# Altium footprint library Texas Instruments Footprints.PcbLib: 429 footprints (part 23 of 32)
Each footprint in its own frame and in the unit in brackets; x right, y up, seen from the top. Pads: shape width x height; smd on the part's side, far side on the other; paste and mask are expansions set on the pad; w line width, h text height; cw(c..) or ccw(c..) is an arc to the next point about the centre after c.
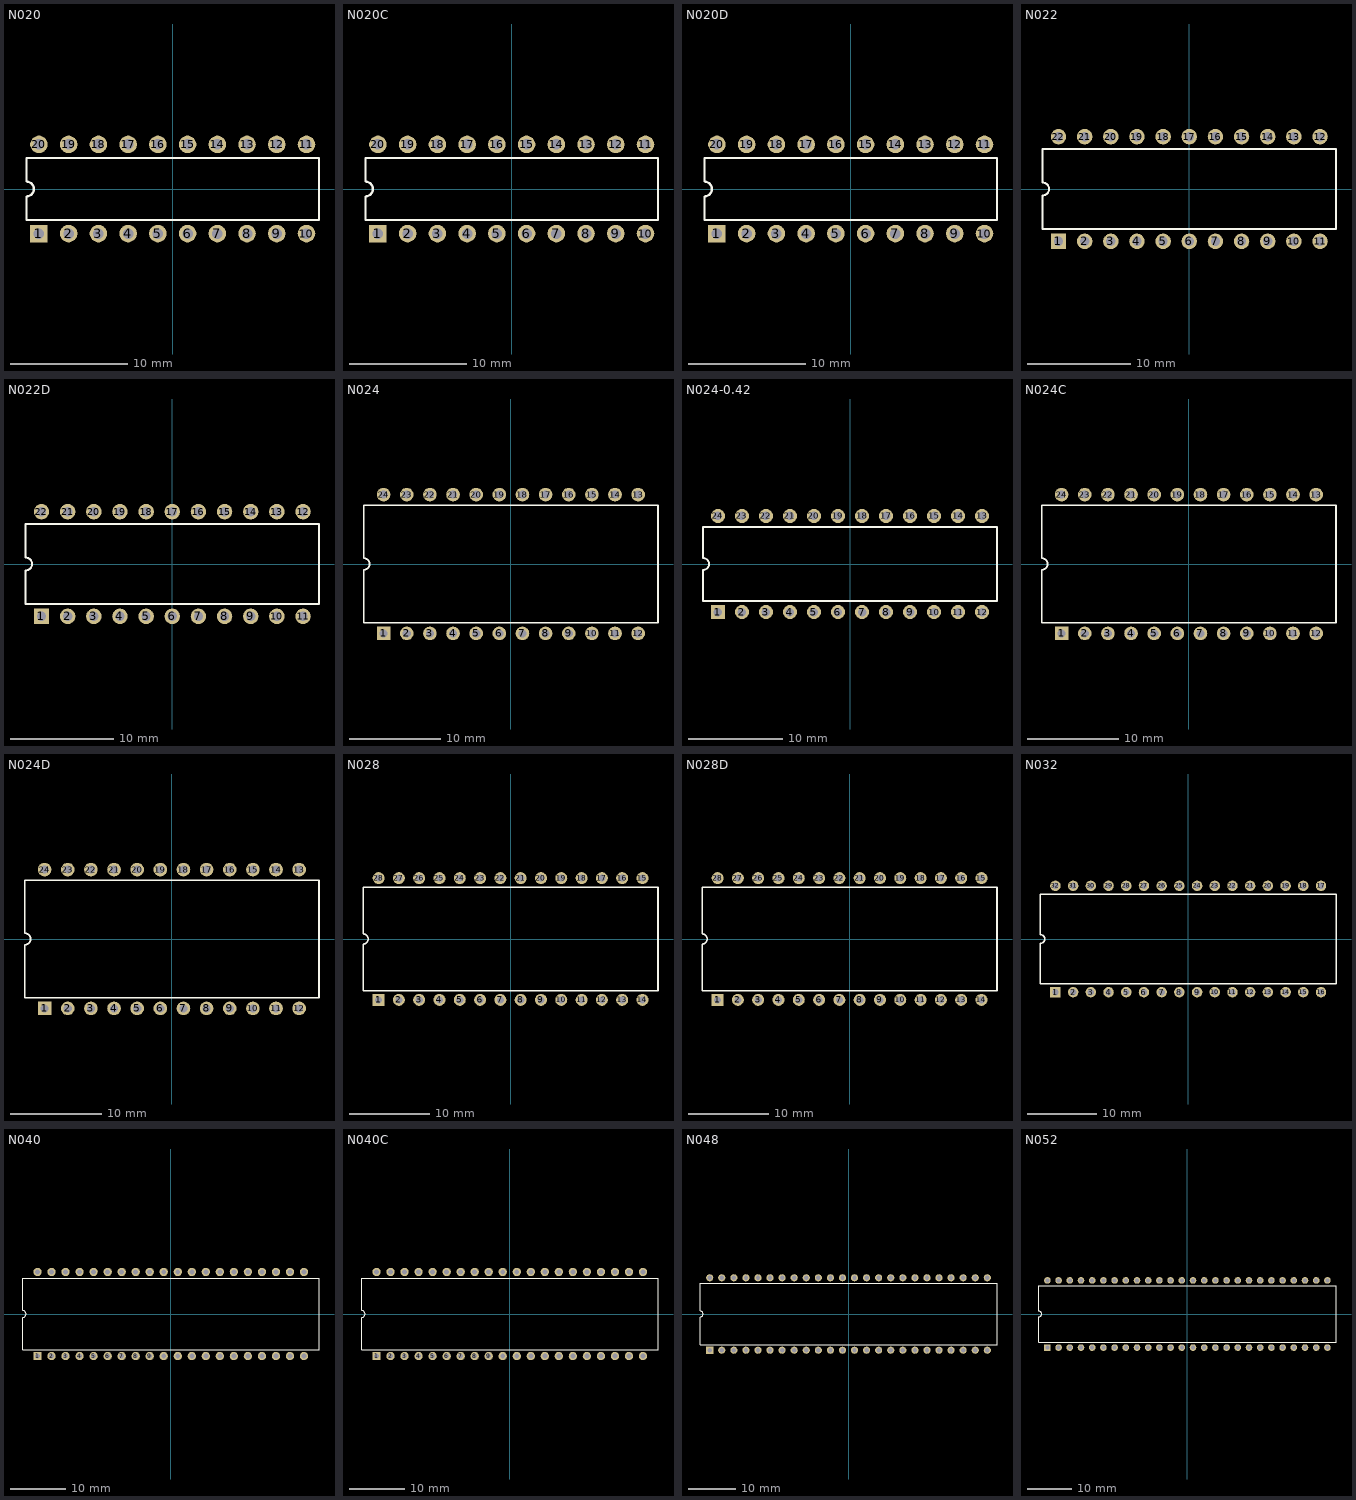
[diagram p22: the footprints below, top view; thin cyan lines are the x and y axes]

## N020 [mm] "DIP; 20 Leads; Row Spacing 7.62 mm; Pitch 2.54 mm"
height 5.08
pads (20):
  rect 1.5x1.5 hole 0.9: 1(-11.43,-3.81)
  round 1.5 hole 0.9: 2(-8.89,-3.81) 3(-6.35,-3.81) 4(-3.81,-3.81) 5(-1.27,-3.81) 6(1.27,-3.81) 7(3.81,-3.81) 8(6.35,-3.81) 9(8.89,-3.81) 10(11.43,-3.81) 11(11.43,3.81) 12(8.89,3.81) 13(6.35,3.81) 14(3.81,3.81) 15(1.27,3.81) 16(-1.27,3.81) 17(-3.81,3.81) 18(-6.35,3.81) 19(-8.89,3.81) 20(-11.43,3.81)
Top Overlay:
  lines w0.2: -12.5,-2.65 12.5,-2.65 12.5,2.65 -12.5,2.65 -12.5,0.635 cw(c-12.5,0) -12.5,-0.635 -12.5,-2.65

## N020C [mm] "DIP; 20 Leads; Row Spacing 7.62 mm; Pitch 2.54 mm"
height 5.08
pads (20):
  rect 1.5x1.5 hole 0.9: 1(-11.43,-3.81)
  round 1.5 hole 0.9: 2(-8.89,-3.81) 3(-6.35,-3.81) 4(-3.81,-3.81) 5(-1.27,-3.81) 6(1.27,-3.81) 7(3.81,-3.81) 8(6.35,-3.81) 9(8.89,-3.81) 10(11.43,-3.81) 11(11.43,3.81) 12(8.89,3.81) 13(6.35,3.81) 14(3.81,3.81) 15(1.27,3.81) 16(-1.27,3.81) 17(-3.81,3.81) 18(-6.35,3.81) 19(-8.89,3.81) 20(-11.43,3.81)
Top Overlay:
  lines w0.2: -12.5,-2.65 12.5,-2.65 12.5,2.65 -12.5,2.65 -12.5,0.635 cw(c-12.5,0) -12.5,-0.635 -12.5,-2.65

## N020D [mm] "DIP; 20 Leads; Row Spacing 7.62 mm; Pitch 2.54 mm"
height 5.08
pads (20):
  rect 1.5x1.5 hole 0.9: 1(-11.43,-3.81)
  round 1.5 hole 0.9: 2(-8.89,-3.81) 3(-6.35,-3.81) 4(-3.81,-3.81) 5(-1.27,-3.81) 6(1.27,-3.81) 7(3.81,-3.81) 8(6.35,-3.81) 9(8.89,-3.81) 10(11.43,-3.81) 11(11.43,3.81) 12(8.89,3.81) 13(6.35,3.81) 14(3.81,3.81) 15(1.27,3.81) 16(-1.27,3.81) 17(-3.81,3.81) 18(-6.35,3.81) 19(-8.89,3.81) 20(-11.43,3.81)
Top Overlay:
  lines w0.2: -12.5,-2.65 12.5,-2.65 12.5,2.65 -12.5,2.65 -12.5,0.635 cw(c-12.5,0) -12.5,-0.635 -12.5,-2.65

## N022 [mm] "DIP; 22 Leads; Row Spacing 10.16 mm; Pitch 2.54 mm"
height 5.08
pads (22):
  rect 1.5x1.5 hole 0.9: 1(-12.7,-5.08)
  round 1.5 hole 0.9: 2(-10.16,-5.08) 3(-7.62,-5.08) 4(-5.08,-5.08) 5(-2.54,-5.08) 6(0,-5.08) 7(2.54,-5.08) 8(5.08,-5.08) 9(7.62,-5.08) 10(10.16,-5.08) 11(12.7,-5.08) 12(12.7,5.08) 13(10.16,5.08) 14(7.62,5.08) 15(5.08,5.08) 16(2.54,5.08) 17(0,5.08) 18(-2.54,5.08) 19(-5.08,5.08) 20(-7.62,5.08) 21(-10.16,5.08) 22(-12.7,5.08)
Top Overlay:
  lines w0.2: -14.25,-3.9 14.25,-3.9 14.25,3.9 -14.25,3.9 -14.25,0.635 cw(c-14.25,0) -14.25,-0.635 -14.25,-3.9

## N022D [mm] "DIP; 22 Leads; Row Spacing 10.16 mm; Pitch 2.54 mm"
height 5.08
pads (22):
  rect 1.5x1.5 hole 0.9: 1(-12.7,-5.08)
  round 1.5 hole 0.9: 2(-10.16,-5.08) 3(-7.62,-5.08) 4(-5.08,-5.08) 5(-2.54,-5.08) 6(0,-5.08) 7(2.54,-5.08) 8(5.08,-5.08) 9(7.62,-5.08) 10(10.16,-5.08) 11(12.7,-5.08) 12(12.7,5.08) 13(10.16,5.08) 14(7.62,5.08) 15(5.08,5.08) 16(2.54,5.08) 17(0,5.08) 18(-2.54,5.08) 19(-5.08,5.08) 20(-7.62,5.08) 21(-10.16,5.08) 22(-12.7,5.08)
Top Overlay:
  lines w0.2: -14.25,-3.9 14.25,-3.9 14.25,3.9 -14.25,3.9 -14.25,0.635 cw(c-14.25,0) -14.25,-0.635 -14.25,-3.9

## N024 [mm] "DIP; 24 Leads; Row Spacing 15.24 mm; Pitch 2.54 mm"
height 5.08
pads (24):
  rect 1.5x1.5 hole 0.9: 1(-13.97,-7.62)
  round 1.5 hole 0.9: 2(-11.43,-7.62) 3(-8.89,-7.62) 4(-6.35,-7.62) 5(-3.81,-7.62) 6(-1.27,-7.62) 7(1.27,-7.62) 8(3.81,-7.62) 9(6.35,-7.62) 10(8.89,-7.62) 11(11.43,-7.62) 12(13.97,-7.62) 13(13.97,7.62) 14(11.43,7.62) 15(8.89,7.62) 16(6.35,7.62) 17(3.81,7.62) 18(1.27,7.62) 19(-1.27,7.62) 20(-3.81,7.62) 21(-6.35,7.62) 22(-8.89,7.62) 23(-11.43,7.62) 24(-13.97,7.62)
Top Overlay:
  lines w0.2: -16.15,-6.45 -16.15,-0.635 ccw(c-16.15,0) -16.15,0.635 -16.15,6.45 16.15,6.45 16.15,-6.45 -16.15,-6.45

## N024-0.42 [mm] "DIP; 24 Leads; Row Spacing 10.16 mm; Pitch 2.54 mm"
height 5.08
pads (24):
  rect 1.5x1.5 hole 0.9: 1(-13.97,-5.08)
  round 1.5 hole 0.9: 2(-11.43,-5.08) 3(-8.89,-5.08) 4(-6.35,-5.08) 5(-3.81,-5.08) 6(-1.27,-5.08) 7(1.27,-5.08) 8(3.81,-5.08) 9(6.35,-5.08) 10(8.89,-5.08) 11(11.43,-5.08) 12(13.97,-5.08) 13(13.97,5.08) 14(11.43,5.08) 15(8.89,5.08) 16(6.35,5.08) 17(3.81,5.08) 18(1.27,5.08) 19(-1.27,5.08) 20(-3.81,5.08) 21(-6.35,5.08) 22(-8.89,5.08) 23(-11.43,5.08) 24(-13.97,5.08)
Top Overlay:
  lines w0.2: -15.55,-3.9 15.55,-3.9 15.55,3.9 -15.55,3.9 -15.55,0.635 cw(c-15.55,0) -15.55,-0.635 -15.55,-3.9

## N024C [mm] "DIP; 24 Leads; Row Spacing 15.24 mm; Pitch 2.54 mm"
height 5.08
pads (24):
  rect 1.5x1.5 hole 0.9: 1(-13.97,-7.62)
  round 1.5 hole 0.9: 2(-11.43,-7.62) 3(-8.89,-7.62) 4(-6.35,-7.62) 5(-3.81,-7.62) 6(-1.27,-7.62) 7(1.27,-7.62) 8(3.81,-7.62) 9(6.35,-7.62) 10(8.89,-7.62) 11(11.43,-7.62) 12(13.97,-7.62) 13(13.97,7.62) 14(11.43,7.62) 15(8.89,7.62) 16(6.35,7.62) 17(3.81,7.62) 18(1.27,7.62) 19(-1.27,7.62) 20(-3.81,7.62) 21(-6.35,7.62) 22(-8.89,7.62) 23(-11.43,7.62) 24(-13.97,7.62)
Top Overlay:
  lines w0.2: -16.15,-6.45 -16.15,-0.635 ccw(c-16.15,0) -16.15,0.635 -16.15,6.45 16.15,6.45 16.15,-6.45 -16.15,-6.45

## N024D [mm] "DIP; 24 Leads; Row Spacing 15.24 mm; Pitch 2.54 mm"
height 5.08
pads (24):
  rect 1.5x1.5 hole 0.9: 1(-13.97,-7.62)
  round 1.5 hole 0.9: 2(-11.43,-7.62) 3(-8.89,-7.62) 4(-6.35,-7.62) 5(-3.81,-7.62) 6(-1.27,-7.62) 7(1.27,-7.62) 8(3.81,-7.62) 9(6.35,-7.62) 10(8.89,-7.62) 11(11.43,-7.62) 12(13.97,-7.62) 13(13.97,7.62) 14(11.43,7.62) 15(8.89,7.62) 16(6.35,7.62) 17(3.81,7.62) 18(1.27,7.62) 19(-1.27,7.62) 20(-3.81,7.62) 21(-6.35,7.62) 22(-8.89,7.62) 23(-11.43,7.62) 24(-13.97,7.62)
Top Overlay:
  lines w0.2: -16.15,-6.45 -16.15,-0.635 ccw(c-16.15,0) -16.15,0.635 -16.15,6.45 16.15,6.45 16.15,-6.45 -16.15,-6.45

## N028 [mm] "DIP; 28 Leads; Row Spacing 15.24 mm; Pitch 2.54 mm"
height 5.08
pads (28):
  rect 1.5x1.5 hole 0.9: 1(-16.51,-7.62)
  round 1.5 hole 0.9: 2(-13.97,-7.62) 3(-11.43,-7.62) 4(-8.89,-7.62) 5(-6.35,-7.62) 6(-3.81,-7.62) 7(-1.27,-7.62) 8(1.27,-7.62) 9(3.81,-7.62) 10(6.35,-7.62) 11(8.89,-7.62) 12(11.43,-7.62) 13(13.97,-7.62) 14(16.51,-7.62) 15(16.51,7.62) 16(13.97,7.62) 17(11.43,7.62) 18(8.89,7.62) 19(6.35,7.62) 20(3.81,7.62) 21(1.27,7.62) 22(-1.27,7.62) 23(-3.81,7.62) 24(-6.35,7.62) 25(-8.89,7.62) 26(-11.43,7.62) 27(-13.97,7.62) 28(-16.51,7.62)
Top Overlay:
  lines w0.2: -18.45,-6.45 -18.45,-0.635 ccw(c-18.45,0) -18.45,0.635 -18.45,6.45 18.45,6.45 18.45,-6.45 -18.45,-6.45

## N028D [mm] "DIP; 28 Leads; Row Spacing 15.24 mm; Pitch 2.54 mm"
height 5.08
pads (28):
  rect 1.5x1.5 hole 0.9: 1(-16.51,-7.62)
  round 1.5 hole 0.9: 2(-13.97,-7.62) 3(-11.43,-7.62) 4(-8.89,-7.62) 5(-6.35,-7.62) 6(-3.81,-7.62) 7(-1.27,-7.62) 8(1.27,-7.62) 9(3.81,-7.62) 10(6.35,-7.62) 11(8.89,-7.62) 12(11.43,-7.62) 13(13.97,-7.62) 14(16.51,-7.62) 15(16.51,7.62) 16(13.97,7.62) 17(11.43,7.62) 18(8.89,7.62) 19(6.35,7.62) 20(3.81,7.62) 21(1.27,7.62) 22(-1.27,7.62) 23(-3.81,7.62) 24(-6.35,7.62) 25(-8.89,7.62) 26(-11.43,7.62) 27(-13.97,7.62) 28(-16.51,7.62)
Top Overlay:
  lines w0.2: -18.45,-6.45 -18.45,-0.635 ccw(c-18.45,0) -18.45,0.635 -18.45,6.45 18.45,6.45 18.45,-6.45 -18.45,-6.45

## N032 [mm] "DIP; 32 Leads; Row Spacing 15.24 mm; Pitch 2.54 mm"
height 5.08
pads (32):
  rect 1.5x1.5 hole 0.9: 1(-19.05,-7.62)
  round 1.5 hole 0.9: 2(-16.51,-7.62) 3(-13.97,-7.62) 4(-11.43,-7.62) 5(-8.89,-7.62) 6(-6.35,-7.62) 7(-3.81,-7.62) 8(-1.27,-7.62) 9(1.27,-7.62) 10(3.81,-7.62) 11(6.35,-7.62) 12(8.89,-7.62) 13(11.43,-7.62) 14(13.97,-7.62) 15(16.51,-7.62) 16(19.05,-7.62) 17(19.05,7.62) 18(16.51,7.62) 19(13.97,7.62) 20(11.43,7.62) 21(8.89,7.62) 22(6.35,7.62) 23(3.81,7.62) 24(1.27,7.62) 25(-1.27,7.62) 26(-3.81,7.62) 27(-6.35,7.62) 28(-8.89,7.62) 29(-11.43,7.62) 30(-13.97,7.62) 31(-16.51,7.62) 32(-19.05,7.62)
Top Overlay:
  lines w0.2: -21.2,-6.45 -21.2,-0.635 ccw(c-21.2,0) -21.2,0.635 -21.2,6.45 21.2,6.45 21.2,-6.45 -21.2,-6.45

## N040 [mm] "DIP; 40 Leads; Row Spacing 15.24 mm; Pitch 2.54 mm"
height 5.08
pads (40):
  rect 1.5x1.5 hole 0.9: 1(-24.13,-7.62)
  round 1.5 hole 0.9: 2(-21.59,-7.62) 3(-19.05,-7.62) 4(-16.51,-7.62) 5(-13.97,-7.62) 6(-11.43,-7.62) 7(-8.89,-7.62) 8(-6.35,-7.62) 9(-3.81,-7.62) 10(-1.27,-7.62) 11(1.27,-7.62) 12(3.81,-7.62) 13(6.35,-7.62) 14(8.89,-7.62) 15(11.43,-7.62) 16(13.97,-7.62) 17(16.51,-7.62) 18(19.05,-7.62) 19(21.59,-7.62) 20(24.13,-7.62) 21(24.13,7.62) 22(21.59,7.62) 23(19.05,7.62) 24(16.51,7.62) 25(13.97,7.62) 26(11.43,7.62) 27(8.89,7.62) 28(6.35,7.62) 29(3.81,7.62) 30(1.27,7.62) 31(-1.27,7.62) 32(-3.81,7.62) 33(-6.35,7.62) 34(-8.89,7.62) 35(-11.43,7.62) 36(-13.97,7.62) 37(-16.51,7.62) 38(-19.05,7.62) 39(-21.59,7.62) 40(-24.13,7.62)
Top Overlay:
  lines w0.2: -26.85,-6.45 -26.85,-0.635 ccw(c-26.85,0) -26.85,0.635 -26.85,6.45 26.85,6.45 26.85,-6.45 -26.85,-6.45

## N040C [mm] "DIP; 40 Leads; Row Spacing 15.24 mm; Pitch 2.54 mm"
height 5.08
pads (40):
  rect 1.5x1.5 hole 0.9: 1(-24.13,-7.62)
  round 1.5 hole 0.9: 2(-21.59,-7.62) 3(-19.05,-7.62) 4(-16.51,-7.62) 5(-13.97,-7.62) 6(-11.43,-7.62) 7(-8.89,-7.62) 8(-6.35,-7.62) 9(-3.81,-7.62) 10(-1.27,-7.62) 11(1.27,-7.62) 12(3.81,-7.62) 13(6.35,-7.62) 14(8.89,-7.62) 15(11.43,-7.62) 16(13.97,-7.62) 17(16.51,-7.62) 18(19.05,-7.62) 19(21.59,-7.62) 20(24.13,-7.62) 21(24.13,7.62) 22(21.59,7.62) 23(19.05,7.62) 24(16.51,7.62) 25(13.97,7.62) 26(11.43,7.62) 27(8.89,7.62) 28(6.35,7.62) 29(3.81,7.62) 30(1.27,7.62) 31(-1.27,7.62) 32(-3.81,7.62) 33(-6.35,7.62) 34(-8.89,7.62) 35(-11.43,7.62) 36(-13.97,7.62) 37(-16.51,7.62) 38(-19.05,7.62) 39(-21.59,7.62) 40(-24.13,7.62)
Top Overlay:
  lines w0.2: -26.85,-6.45 -26.85,-0.635 ccw(c-26.85,0) -26.85,0.635 -26.85,6.45 26.85,6.45 26.85,-6.45 -26.85,-6.45

## N048 [mm] "DIP; 48 Leads; Row Spacing 15.24 mm; Pitch 2.54 mm"
height 5.08
pads (48):
  rect 1.5x1.5 hole 0.9: 1(-29.21,-7.62)
  round 1.5 hole 0.9: 2(-26.67,-7.62) 3(-24.13,-7.62) 4(-21.59,-7.62) 5(-19.05,-7.62) 6(-16.51,-7.62) 7(-13.97,-7.62) 8(-11.43,-7.62) 9(-8.89,-7.62) 10(-6.35,-7.62) 11(-3.81,-7.62) 12(-1.27,-7.62) 13(1.27,-7.62) 14(3.81,-7.62) 15(6.35,-7.62) 16(8.89,-7.62) 17(11.43,-7.62) 18(13.97,-7.62) 19(16.51,-7.62) 20(19.05,-7.62) 21(21.59,-7.62) 22(24.13,-7.62) 23(26.67,-7.62) 24(29.21,-7.62) 25(29.21,7.62) 26(26.67,7.62) 27(24.13,7.62) 28(21.59,7.62) 29(19.05,7.62) 30(16.51,7.62) 31(13.97,7.62) 32(11.43,7.62) 33(8.89,7.62) 34(6.35,7.62) 35(3.81,7.62) 36(1.27,7.62) 37(-1.27,7.62) 38(-3.81,7.62) 39(-6.35,7.62) 40(-8.89,7.62) 41(-11.43,7.62) 42(-13.97,7.62) 43(-16.51,7.62) 44(-19.05,7.62) 45(-21.59,7.62) 46(-24.13,7.62) 47(-26.67,7.62) 48(-29.21,7.62)
Top Overlay:
  lines w0.2: -31.25,-6.45 31.25,-6.45 31.25,6.45 -31.25,6.45 -31.25,0.635 cw(c-31.25,0) -31.25,-0.635 -31.25,-6.45

## N052 [mm] "DIP; 52 Leads; Row Spacing 15.24 mm; Pitch 2.54 mm"
height 5.08
pads (52):
  rect 1.5x1.5 hole 0.9: 1(-31.75,-7.62)
  round 1.5 hole 0.9: 2(-29.21,-7.62) 3(-26.67,-7.62) 4(-24.13,-7.62) 5(-21.59,-7.62) 6(-19.05,-7.62) 7(-16.51,-7.62) 8(-13.97,-7.62) 9(-11.43,-7.62) 10(-8.89,-7.62) 11(-6.35,-7.62) 12(-3.81,-7.62) 13(-1.27,-7.62) 14(1.27,-7.62) 15(3.81,-7.62) 16(6.35,-7.62) 17(8.89,-7.62) 18(11.43,-7.62) 19(13.97,-7.62) 20(16.51,-7.62) 21(19.05,-7.62) 22(21.59,-7.62) 23(24.13,-7.62) 24(26.67,-7.62) 25(29.21,-7.62) 26(31.75,-7.62) 27(31.75,7.62) 28(29.21,7.62) 29(26.67,7.62) 30(24.13,7.62) 31(21.59,7.62) 32(19.05,7.62) 33(16.51,7.62) 34(13.97,7.62) 35(11.43,7.62) 36(8.89,7.62) 37(6.35,7.62) 38(3.81,7.62) 39(1.27,7.62) 40(-1.27,7.62) 41(-3.81,7.62) 42(-6.35,7.62) 43(-8.89,7.62) 44(-11.43,7.62) 45(-13.97,7.62) 46(-16.51,7.62) 47(-19.05,7.62) 48(-21.59,7.62) 49(-24.13,7.62) 50(-26.67,7.62) 51(-29.21,7.62) 52(-31.75,7.62)
Top Overlay:
  lines w0.2: -33.7,-6.45 -33.7,-0.635 ccw(c-33.7,0) -33.7,0.635 -33.7,6.45 33.7,6.45 33.7,-6.45 -33.7,-6.45